# Altium footprint library 78xx.PcbLib: 3 footprints
Each footprint in its own frame and in the unit in brackets; x right, y up, seen from the top. Pads: shape width x height; smd on the part's side, far side on the other; paste and mask are expansions set on the pad; w line width, h text height; cw(c..) or ccw(c..) is an arc to the next point about the centre after c.
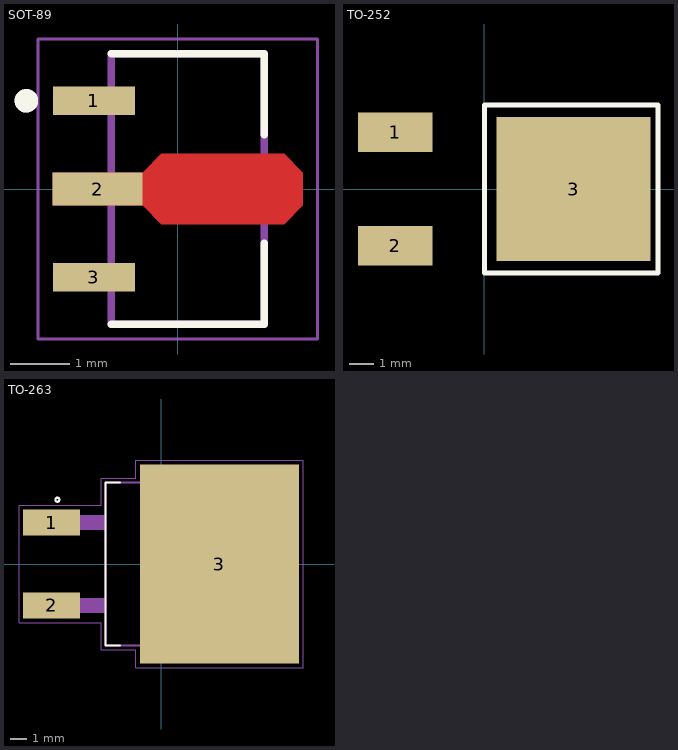
[diagram p0: the footprints below, top view; thin cyan lines are the x and y axes]

## SOT-89 [mm]
pads (3):
  rect 1.4x0.48 smd: 1(-1.425,1.5) 3(-1.425,-1.5)
  rect 1.525x0.56 smd mask+0: 2(-1.365,0)
Top Layer:
  region: 2.125,0.28 2.125,-0.28 1.805,-0.6 -0.28,-0.6 -0.6,-0.28 -2.125,-0.28 -2.125,0.28 -0.6,0.28 -0.28,0.6 1.805,0.6
Top Overlay:
  circle w0.2: c-2.575,1.5 r0.1
  lines w0.127: -1.13,-2.3 1.47,-2.3 1.47,-0.92 ; -1.13,2.3 1.47,2.3 1.47,0.92
Top Paste:
  region: 1.623,-0.38 -0.098,-0.38 -0.098,0.38 1.623,0.38
Top Solder:
  region: 2.225,0.28 2.225,-0.28 1.805,-0.7 -0.28,-0.7 -0.6,-0.38 -2.225,-0.38 -2.225,0.38 -0.6,0.38 -0.28,0.7 1.805,0.7
Mechanical 13:
  circle w0.2: c-2.575,1.5 r0.1
  lines w0.127: -1.13,-2.3 -1.13,2.3 1.47,2.3 1.47,-2.3 -1.13,-2.3
Mechanical 15:
  lines w0.05: -2.375,-2.55 -2.375,2.55 2.375,2.55 2.375,-2.55 -2.375,-2.55
3D body "BGA6589,135.STEP": height 1.6, standoff 0, extent -2.123,-2.25 1.877,2.25

## TO-252 [mm] "D-PAK"
height 2.38
pads (3):
  rect 3x1.6 smd: 1(-3.59,2.286) 2(-3.59,-2.286)
  rect 6.2x5.8 smd: 3(3.59,0)
Top Overlay:
  lines w0.2: 0,-3.378 6.985,-3.378 6.985,3.378 0,3.378 0,-3.378
3D body "User Library-TO252AA.STEP": height 2.3, standoff -0.01, extent -3.41,-3.29 6.29,3.29

## TO-263 [mm] "D2PAK"
pads (3):
  rect 3.5x1.6 smd: 1(-6.7,2.54) 2(-6.7,-2.54)
  rect 9.75x12.2 smd paste-7: 3(3.575,0)
Top Overlay:
  circle w0.127: c-6.35,3.937 r0.127
  lines w0.127: -2.515,-5 -3.4,-5 -3.4,5 -2.515,5
Top Paste:
  region: 1.31,2.362 -0.07,2.362 -0.07,3.83 1.31,3.83
  region: 3.28,2.362 1.901,2.362 1.901,3.83 3.28,3.83
  region: 1.31,-3.834 -0.07,-3.834 -0.07,-2.36 1.31,-2.36
  region: 3.28,-3.835 1.902,-3.835 1.902,-2.36 3.28,-2.36
  region: 3.28,-1.766 1.902,-1.766 1.902,-0.295 3.28,-0.295
  region: 3.28,0.295 1.902,0.295 1.902,1.765 3.28,1.765
  region: 1.31,0.296 -0.07,0.296 -0.07,1.765 1.31,1.765
  region: 1.31,-1.767 -0.07,-1.767 -0.07,-0.295 1.31,-0.295
  region: 7.22,-3.837 5.85,-3.837 5.85,-2.36 7.22,-2.36
  region: 5.25,-3.836 3.876,-3.836 3.876,-2.36 5.25,-2.36
  region: 7.22,2.362 5.844,2.362 5.844,3.83 7.22,3.83
  region: 5.25,2.362 3.874,2.362 3.874,3.83 5.25,3.83
  region: 5.25,0.295 3.876,0.295 3.876,1.765 5.25,1.765
  region: 5.25,-1.767 3.875,-1.767 3.875,-0.295 5.25,-0.295
  region: 7.22,-1.766 5.844,-1.766 5.844,-0.295 7.22,-0.295
  region: 7.22,0.295 5.85,0.295 5.85,1.765 7.22,1.765
Mechanical 13:
  region: -3.4,-2.996 -8.216,-2.996 -8.216,-2.09 -3.4,-2.09
  region: -3.4,2.094 -8.215,2.094 -8.215,2.99 -3.4,2.99
  lines w0.127: -3.4,-5 -3.4,5 7.4,5 7.4,-5 -3.4,-5
Mechanical 15:
  lines w0.05: -8.7,-3.6 -8.7,3.6 -3.65,3.6 -3.65,5.25 -1.55,5.25 -1.55,6.35 8.7,6.35 8.7,-6.35 -1.55,-6.35 -1.55,-5.25 -3.65,-5.25 -3.65,-3.6 -8.7,-3.6
3D body "step_temp.STEP": height 4.6, standoff -0.23, extent -7.712,-5.1 7.712,5.1